# Altium footprint library 24808031.PcbLib: 1 footprints
Each footprint in its own frame and in the unit in brackets; x right, y up, seen from the top. Pads: shape width x height; smd on the part's side, far side on the other; paste and mask are expansions set on the pad; w line width, h text height; cw(c..) or ccw(c..) is an arc to the next point about the centre after c.
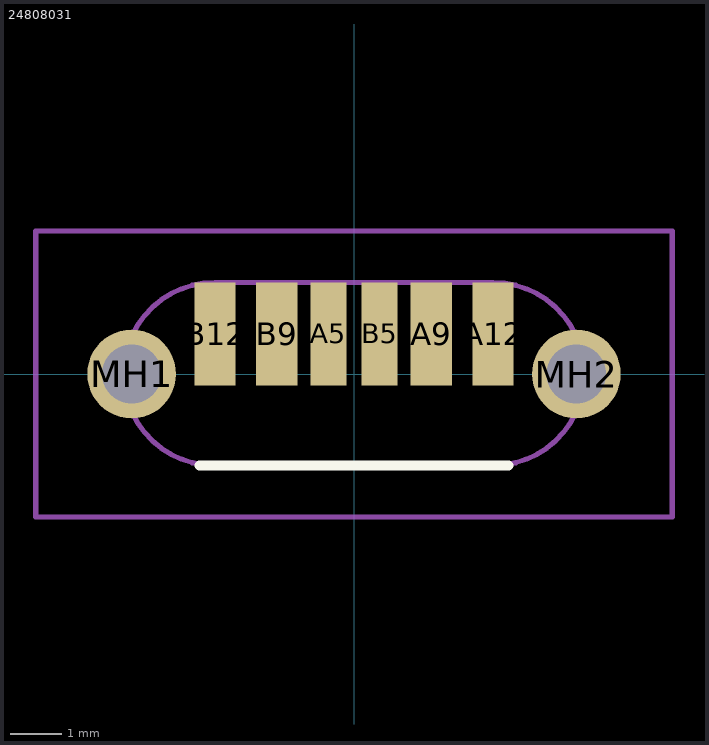
[diagram p0: the footprint, top view; thin cyan lines are the x and y axes]

## 24808031 [mm]
pads (8):
  rect 0.7x2 smd: A5(-0.5,0.78) B5(0.5,0.78)
  rect 0.8x2 smd: A9(1.5,0.78) A12(2.7,0.78) B9(-1.5,0.78) B12(-2.7,0.78)
  round 1.725 hole 1.15: MH1(-4.32,0) MH2(4.32,0)
Top Overlay:
  lines w0.2: -3,-1.78 3,-1.78
Mechanical 15:
  lines w0.1: -2.7,-1.78 2.7,-1.78 ccw(c2.7,0) 2.7,1.78 ; -2.7,-1.78 -2.7,-1.78 ; -2.7,-1.78 cw(c-2.7,0) -2.7,1.78 2.7,1.78 ; 2.7,1.78 2.7,1.78
Mechanical 20:
  lines w0.1: -6.183,-2.78 6.183,-2.78 6.183,2.78 -6.183,2.78 -6.183,-2.78